# Altium schematic symbol library Common mode choke.SchLib: 1 symbol
Pins are listed as number, name and electrical type; pins without a type are passive.

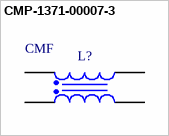
[diagram p0: symbol CMP-1371-00007-3]

## CMP-1371-00007-3
designator L?, comment CMF
NexarPartId: 46948346; Shielding: Unshielded; Voltage Rating: 250V; Max DC Current: 3.5A; Pin Length: 3mm; Tolerance: 50%; Number of Lines: 2; DC Resistance (DCR): 33mΩ; Inductance: 500µH; Test Frequency: 10kHz; Max Operating Temperature: 125°C; RoHS: Compliant; REACH SVHC: No SVHC; Width: 7.5mm; Height: 16mm; Current Rating: 3.5A; Ambient Temperature Range High: 60°C; Min Operating Temperature: -40°C; Case/Package: 300; Ambient Temperature Range Low: -40°C; Number of Pins: 4; Packaging: Bulk; Termination: Through Hole; Max Current Rating: 3.5A; Mount: Through Hole; Voltage Rating (AC): 250V; Length: 15mm
footprint WE-CMBNC_Type XS_7448013501 (THT Common Mode Power Line Choke, 4 leads, body 15x7.5mm)
pins: 1, 2, 3, 4